# Altium integrated library TL1963A-33DCYR.IntLib: 1 symbol
Pins are listed as number, name and electrical type; pins without a type are passive.

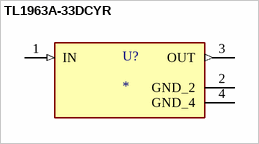
[diagram p0: symbol TL1963A-33DCYR]

## TL1963A-33DCYR
designator U?
1.5-A, 20-V, low-dropout voltage regulator with reverse current & reverse voltage protection; MF: Texas Instruments; MP: TL1963A-33DCYR; SnapEDA_Link: https://www.snapeda.com/parts/TL1963A-33DCYR/Texas+Instruments/view-part/?ref=snap; Package: SOT-223-4 Texas Instruments; Value: *; Check_prices: https://www.snapeda.com/parts/TL1963A-33DCYR/Texas+Instruments/view-part/?ref=eda
footprint VREG_TL1963A-33DCYR
pins: 1 IN (in), 2 GND_2 (power), 3 OUT (out), 4 GND_4 (power)